# Altium integrated library MCP6002-I_SN.IntLib: 1 symbol
Pins are listed as number, name and electrical type; pins without a type are passive.

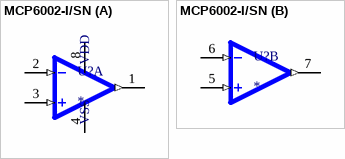
[diagram p0: symbol MCP6002-I/SN]

## MCP6002-I/SN
designator U?
Microchip , Dual Op Amp, 1MHzCMOS, Rail to Rail, 3V, 5V, 8-Pin SOIC | Microchip Technology Inc. MCP6002-I/SN; SnapEDA_Link: https://www.snapeda.com/parts/MCP6002-I/SN/Microchip/view-part/?ref=snap; Package: SO-8 Microchip; Value: *; MF: Microchip; MP: MCP6002-I/SN; Check_prices: https://www.snapeda.com/parts/MCP6002-I/SN/Microchip/view-part/?ref=eda
footprint SOIC127P600X175-8N
part A pins: 1 VOUTA (out), 2 VINA- (in), 3 VINA+ (in), 4 VSS (power), 8 VDD (power)
part B pins: 5 VINB+ (in), 6 VINB- (in), 7 VOUTB (out)